# EAGLE library part 1787098 (library con-phoenix-350)
DMC_1,5/10-G1F-3,5-LR_P20THR Pluggable Terminal Blocks 10 Pos 3.5mm Dbl Row Through Hole Header
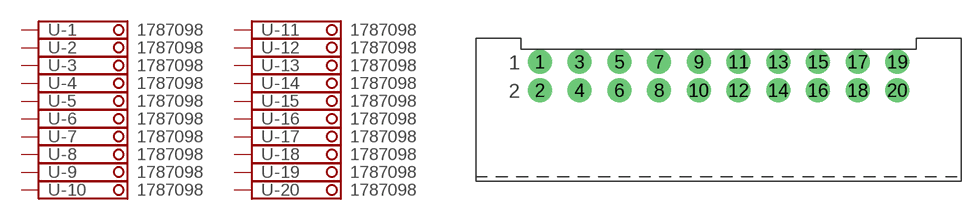
[diagram p19: symbol with the pads of 1787098; footprint 1787098]

Designator prefix -; gates -1=SCHRAUBKLEMME -2=SCHRAUBKLEMME -3=SCHRAUBKLEMME -4=SCHRAUBKLEMME -5=SCHRAUBKLEMME -6=SCHRAUBKLEMME -7=SCHRAUBKLEMME -8=SCHRAUBKLEMME -9=SCHRAUBKLEMME -10=SCHRAUBKLEMME -11=SCHRAUBKLEMME -12=SCHRAUBKLEMME -13=SCHRAUBKLEMME -14=SCHRAUBKLEMME -15=SCHRAUBKLEMME -16=SCHRAUBKLEMME -17=SCHRAUBKLEMME -18=SCHRAUBKLEMME -19=SCHRAUBKLEMME -20=SCHRAUBKLEMME

## 1787098  [1787098]
1  -1:K  pas
2  -2:K  pas
3  -3:K  pas
4  -4:K  pas
5  -5:K  pas
6  -6:K  pas
7  -7:K  pas
8  -8:K  pas
9  -9:K  pas
10  -10:K  pas
11  -11:K  pas
12  -12:K  pas
13  -13:K  pas
14  -14:K  pas
15  -15:K  pas
16  -16:K  pas
17  -17:K  pas
18  -18:K  pas
19  -19:K  pas
20  -20:K  pas

## Footprint 1787098 (pad centres in mm)
drill 1.4: 1 -15.75,4.7; 2 -15.75,2.2; 3 -12.25,4.7; 4 -12.25,2.2; 5 -8.75,4.7; 6 -8.75,2.2; 7 -5.25,4.7; 8 -5.25,2.2; 9 -1.75,4.7; 10 -1.75,2.2; 11 1.75,4.7; 12 1.75,2.2; 13 5.25,4.7; 14 5.25,2.2; 15 8.75,4.7; 16 8.75,2.2; 17 12.25,4.7; 18 12.25,2.2; 19 15.75,4.7; 20 15.75,2.2